# Altium footprint library Connector_RJ.PcbLib: 28 footprints (part 2 of 2)
Each footprint in its own frame and in the unit in brackets; x right, y up, seen from the top. Pads: shape width x height; smd on the part's side, far side on the other; paste and mask are expansions set on the pad; w line width, h text height; cw(c..) or ccw(c..) is an arc to the next point about the centre after c.
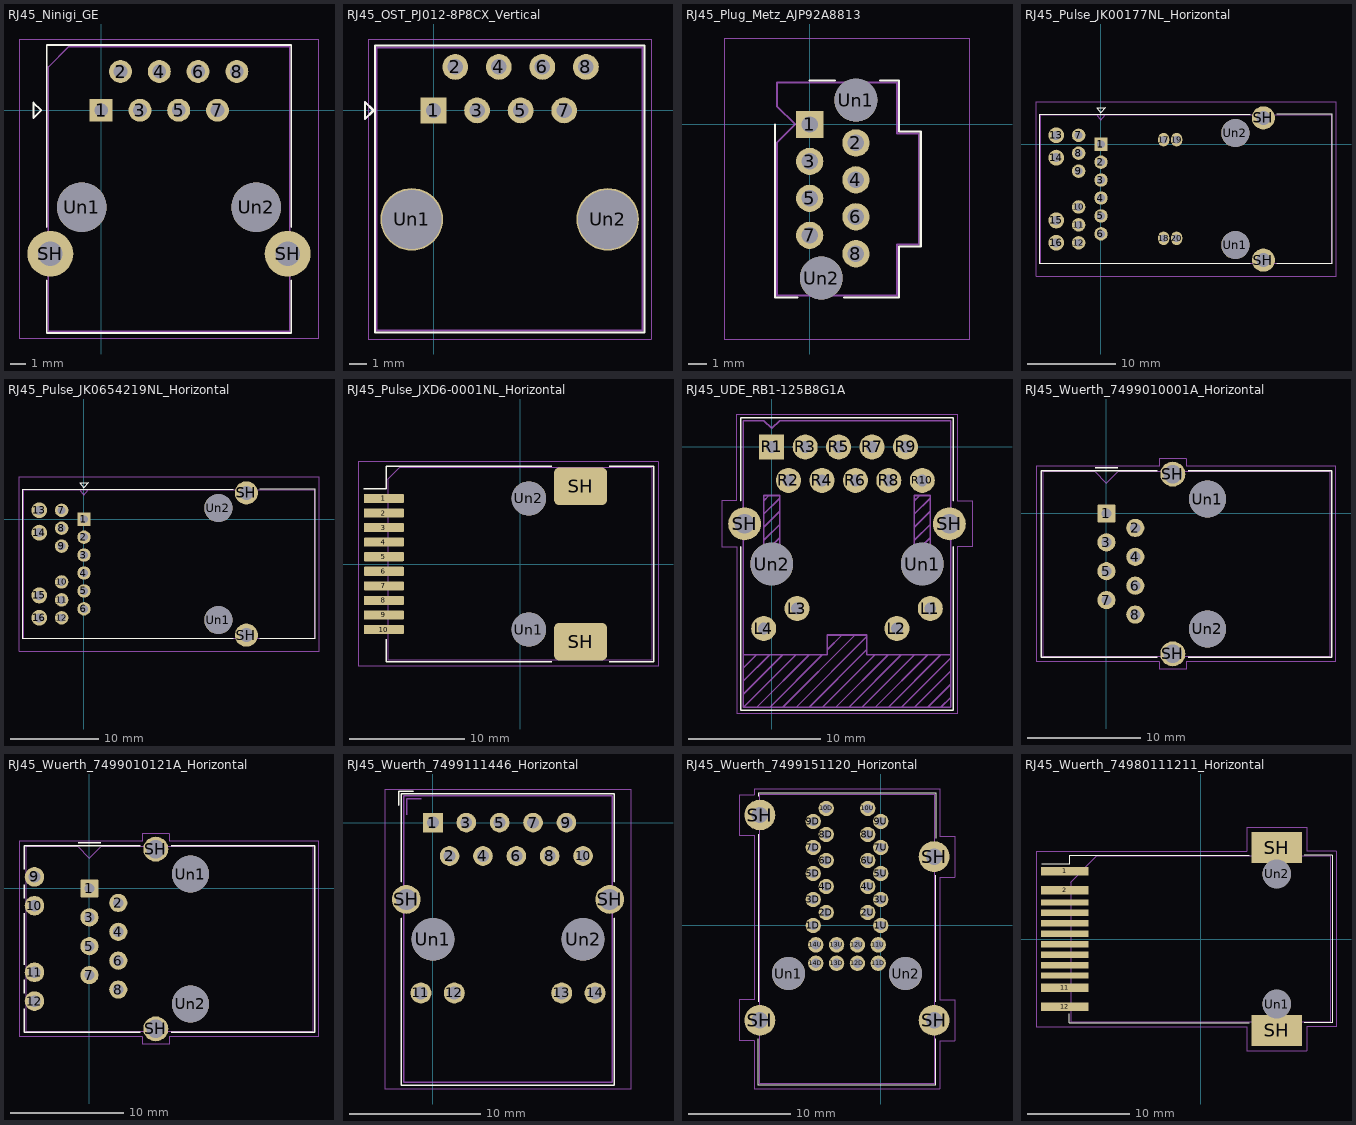
[diagram p1: the footprints below, top view; thin cyan lines are the x and y axes]

## RJ45_Ninigi_GE [mm]
pads (12):
  rect 1.5x1.5 hole 0.9: 1(0,0)
  round 1.5 hole 0.9: 2(1.27,2.54) 3(2.54,0) 4(3.81,2.54) 5(5.08,0) 6(6.35,2.54) 7(7.62,0) 8(8.89,2.54)
  round 3 hole 1.6: SH(-3.325,-9.4) SH(12.215,-9.4)
  round 3.25 hole 3.25: Un1(-1.27,-6.35) Un2(10.16,-6.35)
F.SilkS:
  lines w0.12: -3.565,-11.15 -3.565,-14.59 12.455,-14.59 12.455,-11.15 ; -3.565,-7.65 -3.565,4.28 12.455,4.28 12.455,-7.65 ; -4.441,-0.508 -3.933,0 -4.441,0.508 -4.441,-0.508
F.CrtYd:
  lines w0.05: -5.33,-14.98 -5.33,4.67 14.22,4.67 14.22,-14.98 -5.33,-14.98
F.Fab:
  lines w0.1: -3.455,-14.48 -3.455,2.84 -2.125,4.17 12.345,4.17 12.345,-14.48 -3.455,-14.48
  text "'.Designator'" at 0.398,-7.2 h1

## RJ45_OST_PJ012-8P8CX_Vertical [mm]
pads (10):
  rect 1.5x1.5 hole 0.9: 1(0,0)
  round 1.5 hole 0.9: 2(1.27,2.54) 3(2.54,0) 4(3.81,2.54) 5(5.08,0) 6(6.35,2.54) 7(7.62,0) 8(8.89,2.54)
  round 3.65 hole 3.45: Un1(-1.27,-6.35) Un2(10.16,-6.35)
F.SilkS:
  lines w0.12: 12.3,3.79 -3.42,3.79 -3.42,-12.95 12.31,-12.95 12.31,3.79 ; -4,-0.5 -3.5,0 -4,0.5 -4,-0.5
F.CrtYd:
  lines w0.05: -3.8,-13.33 12.69,-13.33 12.69,4.17 -3.8,4.17 -3.8,-13.33
F.Fab:
  lines w0.1: -3.305,-12.83 -3.305,3.67 12.195,3.67 12.195,-12.83 -3.305,-12.83
  lines w0.12: -4,-0.5 -4,0.5 -3.5,0 -4,-0.5
  text "'.Designator'" at 0.653,-7.19 h1

## RJ45_Plug_Metz_AJP92A8813 [mm]
pads (10):
  rect 1.5x1.5 hole 0.9: 1(0,0)
  round 1.5 hole 0.9: 2(2.54,-1.016) 3(0,-2.032) 4(2.54,-3.048) 5(0,-4.064) 6(2.54,-5.08) 7(0,-6.096) 8(2.54,-7.112)
  round 2.36 hole 2.36: Un1(2.54,1.334) Un2(0.635,-8.446)
F.SilkS:
  lines w0.12: -1.915,0 -1.915,-9.51 -0.69,-9.51 ; 0,2.41 1.39,2.41 ; 1.9,-9.51 4.91,-9.51 4.91,-6.71 6.11,-6.71 6.11,-0.39 4.91,-0.39 4.91,2.41 3.87,2.41
F.CrtYd:
  lines w0.05: -4.7,-11.8 -4.7,4.7 8.8,4.7 8.8,-11.8 -4.7,-11.8
F.Fab:
  lines w0.1: -1.805,-9.4 -1.805,-1 -0.805,0 -1.805,1 -1.805,2.3 4.795,2.3 4.795,-0.5 5.995,-0.5 5.995,-6.6 4.795,-6.6 4.795,-9.4 -1.805,-9.4
  text "'.Designator'" at 5.84,-7.647 h1

## RJ45_Pulse_JK00177NL_Horizontal [mm]
pads (24):
  rect 1.524x1.524 hole 0.89: 1(0,0)
  round 1.524 hole 0.89: 2(0,-2.032) 3(0,-4.064) 4(0,-6.096) 5(0,-8.128) 6(0,-10.16) 7(-2.54,1.016) 8(-2.54,-1.016) 9(-2.54,-3.048) 10(-2.54,-7.112) 11(-2.54,-9.144) 12(-2.54,-11.176)
  round 1.8 hole 1.025: 13(-5.08,1.016) 14(-5.08,-1.524) 15(-5.08,-8.636) 16(-5.08,-11.176)
  rrect100% 1.27x1.524 hole 0.89: 17(7.11,0.515) 18(7.11,-10.665) 19(8.58,0.515) 20(8.58,-10.665)
  round 2.61 hole 1.57: SH(18.415,-13.144)
  round 2.63 hole 1.57: SH(18.415,2.984)
  round 3.2 hole 3.2: Un1(15.24,-11.43) Un2(15.24,1.27)
F.SilkS:
  lines w0.12: 16.91,3.42 -6.97,3.42 -6.97,-13.57 16.92,-13.57 ; 19.91,-13.57 26.25,-13.57 26.25,3.42 19.92,3.42 ; -0.5,4.15 0,3.55 0.5,4.15 -0.5,4.15
F.CrtYd:
  lines w0.05: -7.37,-14.95 -7.37,4.8 26.65,4.8 26.65,-14.95 -7.37,-14.95
F.Fab:
  lines w0.1: -0.5,3.32 0,2.72 0.5,3.32 ; -6.87,-13.47 26.15,-13.47 26.15,3.32 -6.87,3.32 -6.87,-13.47
  text "'.Designator'" at 5.053,-5.94 h1

## RJ45_Pulse_JK0654219NL_Horizontal [mil]
pads (20):
  rect 60x60 hole 35.04: 1(0,0)
  round 60 hole 35.04: 2(0,-80) 3(0,-160) 4(0,-240) 5(0,-320) 6(0,-400) 7(-100,40) 8(-100,-40) 9(-100,-120) 10(-100,-280) 11(-100,-360) 12(-100,-440)
  round 70.87 hole 40.35: 13(-200,40) 14(-200,-60) 15(-200,-340) 16(-200,-440)
  round 102.76 hole 61.81: SH(725,-517.5)
  round 103.54 hole 61.81: SH(725,117.5)
  round 125.98 hole 125.98: Un1(600,-450) Un2(600,50)
F.SilkS:
  lines w4.72: 665.75,134.65 -274.41,134.65 -274.41,-534.25 666.14,-534.25 ; 783.86,-534.25 1033.46,-534.25 1033.46,134.65 784.25,134.65 ; -19.68,163.39 0,139.76 19.68,163.39 -19.68,163.39
F.CrtYd:
  lines w1.97: -290.16,-588.58 -290.16,188.98 1049.21,188.98 1049.21,-588.58 -290.16,-588.58
F.Fab:
  lines w3.94: -19.68,130.71 0,107.09 19.68,130.71 ; -270.47,-530.32 1029.53,-530.32 1029.53,130.71 -270.47,130.71 -270.47,-530.32
  text "'.Designator'" at 198.95,-233.87 h39.37

## RJ45_Pulse_JXD6-0001NL_Horizontal [mm]
pads (14):
  rrect25% 3.5x0.8 smd: 1(-11.875,5.715) 2(-11.875,4.445) 3(-11.875,3.175) 4(-11.875,1.905) 5(-11.875,0.635) 6(-11.875,-0.635) 7(-11.875,-1.905) 8(-11.875,-3.175) 9(-11.875,-4.445) 10(-11.875,-5.715)
  rrect25% 4.6x3.26 smd: SH(5.275,-6.77) SH(5.275,6.77)
  round 3 hole 3: Un1(0.775,-5.715) Un2(0.775,5.715)
F.SilkS:
  lines w0.12: -13.625,6.55 -11.645,6.55 -11.645,8.52 2.775,8.52 ; -11.645,-6.55 -11.645,-8.52 2.775,-8.52 ; 7.775,-8.52 11.645,-8.52 11.645,8.52 7.775,8.52
F.CrtYd:
  lines w0.05: -14.13,-8.9 12.03,-8.9 12.03,8.9 -14.13,8.9 -14.13,-8.9
F.Fab:
  lines w0.1: -11.525,-8.4 -11.525,7.4 -10.525,8.4 11.525,8.4 11.525,-8.4 -11.525,-8.4
  text "'.Designator'" at -4.047,-0.84 h1

## RJ45_UDE_RB1-125B8G1A [mm]
pads (18):
  round 1.9 hole 0.9: L1(12.04,-12.27) L2(9.5,-13.79) L3(1.93,-12.27) L4(-0.61,-13.79) R2(1.27,-2.54) R3(2.54,0) R4(3.81,-2.54) R5(5.08,0) R6(6.35,-2.54) R7(7.62,0) R8(8.89,-2.54) R9(10.16,0) R10(11.43,-2.54)
  rect 1.9x1.9 hole 0.9: R1(0,0)
  round 2.5 hole 1.5: SH(-2.06,-5.84) SH(13.49,-5.84)
  round 3.25 hole 3.25: Un1(11.43,-8.89) Un2(0,-8.89)
F.SilkS:
  lines w0.12: -2.36,-7.58 -2.36,-19.98 13.79,-19.98 13.79,-7.58 ; -2.36,-4.08 -2.36,2.2 13.79,2.2 13.79,-4.08
Dwgs.User:
  lines w0.12: -2.16,-18.78 0.84,-15.78 ; -2.16,-17.78 -0.16,-15.78 ; -2.16,-16.78 -1.16,-15.78 ; -1.16,-19.78 2.84,-15.78 ; -0.6,-8.09 0.6,-6.89 ; -0.6,-7.09 0.6,-5.89 ; -0.6,-6.09 0.6,-4.89 ; -0.6,-5.09 0.6,-3.89 ; -0.6,-4.09 -0.2,-3.69 ; -0.16,-19.78 3.84,-15.78 ; 0.6,-7.89 -0.6,-9.09 ; 0.84,-19.77 6.33,-14.28 ; 1.84,-19.78 7.22,-14.4 ; 1.84,-15.78 -2.16,-19.78 ; 2.84,-19.77 7.22,-15.39 ; 3.84,-19.78 7.84,-15.78 ; 4.21,-15.41 5.34,-14.29 ; 4.84,-19.78 8.84,-15.78 ; 5.84,-19.78 9.84,-15.78 ; 6.84,-19.78 10.84,-15.78 ; 7.84,-19.78 11.84,-15.78 ; 8.84,-19.78 12.84,-15.78 ; 9.84,-19.78 13.59,-16.03 ; 10.83,-8.09 12.03,-6.89 ; 10.83,-7.09 12.03,-5.89 ; 10.83,-6.09 12.03,-4.89 ; 10.83,-5.09 12.03,-3.89 ; 10.83,-4.09 11.23,-3.69 ; 10.84,-19.77 13.59,-17.02 ; 11.84,-19.77 13.59,-18.02 ; 12.03,-7.89 10.83,-9.09 ; 12.84,-19.77 13.59,-19.02 ; -2.16,-19.78 -2.16,-15.78 4.21,-15.78 4.21,-14.28 7.22,-14.28 7.22,-15.78 13.59,-15.78 13.59,-19.78 -2.16,-19.78 ; -0.6,-9.09 -0.6,-3.69 0.6,-3.69 0.6,-9.09 -0.6,-9.09 ; 10.83,-9.09 10.83,-3.69 12.03,-3.69 12.03,-9.09 10.83,-9.09
F.CrtYd:
  lines w0.05: -3.81,-7.59 -3.81,-4.09 -2.66,-4.09 -2.66,2.5 14.09,2.5 14.09,-4.09 15.24,-4.09 15.24,-7.59 14.09,-7.59 14.09,-20.28 -2.66,-20.28 -2.66,-7.59 -3.81,-7.59
F.Fab:
  lines w0.1: -2.16,-19.78 -2.16,2 -0.6,2 0,1.4 0.6,2 13.59,2 13.59,-19.78 -2.16,-19.78
  text "'.Designator'" at 1.953,-6.84 h1

## RJ45_Wuerth_7499010001A_Horizontal [mm]
pads (12):
  rrect16% 1.6x1.6 hole 0.9: 1(0,0)
  round 1.6 hole 0.9: 2(2.54,-1.27) 3(0,-2.54) 4(2.54,-3.81) 5(0,-5.08) 6(2.54,-6.35) 7(0,-7.62) 8(2.54,-8.89)
  round 2.2 hole 1.6: SH(5.84,-12.345) SH(5.84,3.455)
  round 3.25 hole 3.25: Un1(8.89,1.27) Un2(8.89,-10.16)
F.SilkS:
  lines w0.12: -1,4 1,4 ; 4.47,-12.655 -5.72,-12.655 -5.72,3.765 4.47,3.765 ; 7.21,-12.655 19.8,-12.655 19.8,3.765 7.21,3.765
F.CrtYd:
  lines w0.05: -6.19,-13.05 -6.19,4.16 4.66,4.16 4.66,4.83 7.02,4.83 7.02,4.16 20.19,4.16 20.19,-13.05 7.02,-13.05 7.02,-13.72 4.66,-13.72 4.66,-13.05 -6.19,-13.05
F.Fab:
  lines w0.1: -1,3.655 -5.61,3.655 -5.61,-12.545 19.69,-12.545 19.69,3.655 1,3.655 0,2.655 ; -1,3.66 0,2.66
  text "'.Designator'" at 3.453,-4.84 h1

## RJ45_Wuerth_7499010121A_Horizontal [mm]
pads (16):
  rrect16% 1.6x1.6 hole 0.9: 1(0,0)
  round 1.6 hole 0.9: 2(2.54,-1.27) 3(0,-2.54) 4(2.54,-3.81) 5(0,-5.08) 6(2.54,-6.35) 7(0,-7.62) 8(2.54,-8.89)
  round 1.72 hole 1.02: 9(-4.83,1.02) 10(-4.83,-1.52) 11(-4.83,-7.37) 12(-4.83,-9.91)
  round 2.2 hole 1.6: SH(5.84,-12.345) SH(5.84,3.455)
  round 3.25 hole 3.25: Un1(8.89,1.27) Un2(8.89,-10.16)
F.SilkS:
  lines w0.12: -5.72,-10.59 -5.72,-12.655 4.47,-12.655 ; -5.72,-9.23 -5.72,-8.05 ; -5.72,-6.69 -5.72,-2.2 ; -5.72,-0.84 -5.72,0.34 ; -5.72,1.7 -5.72,3.765 4.47,3.765 ; -1,4 1,4 ; 7.21,-12.655 19.8,-12.655 19.8,3.765 7.21,3.765
F.CrtYd:
  lines w0.05: -6.19,-13.05 4.66,-13.05 4.66,-13.72 7.02,-13.72 7.02,-13.05 20.19,-13.05 20.19,4.16 7.02,4.16 7.02,4.83 4.66,4.83 4.66,4.16 -6.19,4.16 -6.19,-13.05
F.Fab:
  lines w0.1: -1,3.655 -5.61,3.655 -5.61,-12.545 19.69,-12.545 19.69,3.655 1,3.655 0,2.655 ; -1,3.66 0,2.66
  text "'.Designator'" at 3.453,-4.84 h1

## RJ45_Wuerth_7499111446_Horizontal [mm]
pads (18):
  rect 1.5x1.5 hole 0.9: 1(0,0)
  round 1.5 hole 0.9: 2(1.27,-2.54) 3(2.54,0) 4(3.81,-2.54) 5(5.08,0) 6(6.35,-2.54) 7(7.62,0) 8(8.89,-2.54) 9(10.16,0) 10(11.43,-2.54)
  round 1.6 hole 1.02: 11(-0.915,-12.97) 12(1.625,-12.97) 13(9.805,-12.97) 14(12.345,-12.97)
  round 2.2 hole 1.6: SH(-2.03,-5.84) SH(13.46,-5.84)
  round 3.25 hole 3.25: Un1(0,-8.89) Un2(11.43,-8.89)
F.SilkS:
  lines w0.12: -2.6,1.31 -2.6,2.4 -1.485,2.4 ; -2.4,-7.29 -2.4,-20 13.8,-20 13.8,-7.29 ; -2.4,-4.49 -2.4,2.2 13.8,2.2 13.8,-4.49
F.CrtYd:
  lines w0.05: -3.63,-20.28 15.06,-20.28 15.06,2.56 -3.63,2.56 -3.63,-20.28
F.Fab:
  lines w0.1: -1.985,0.61 -1.985,1.81 -0.885,1.81 ; -2.225,-19.78 13.655,-19.78 13.655,2.06 -2.225,2.06 -2.225,-19.78
  text "'.Designator'" at 9.762,-8.05 h1

## RJ45_Wuerth_7499151120_Horizontal [mm]
pads (34):
  round 1.5 hole 0.9: 1D(-6.6,0) 1U(0,0) 2D(-5.33,1.27) 2U(-1.27,1.27) 3D(-6.6,2.54) 3U(0,2.54) 4D(-5.33,3.81) 4U(-1.27,3.81) 5D(-6.6,5.08) 5U(0,5.08) 6D(-5.33,6.35) 6U(-1.27,6.35) 7D(-6.6,7.62) 7U(0,7.62) 8D(-5.33,8.89) 8U(-1.27,8.89) 9D(-6.6,10.16) 9U(0,10.16) 10D(-5.33,11.43) 10U(-1.27,11.43) 11D(-0.255,-3.69) 11U(-0.255,-1.89) 12D(-2.285,-3.69) 12U(-2.285,-1.89) 13D(-4.315,-3.69) 13U(-4.315,-1.89) 14D(-6.345,-3.69) 14U(-6.345,-1.89)
  round 3 hole 1.6: SH(-11.805,-9.27) SH(-11.805,10.79) SH(5.205,-9.27) SH(5.205,6.73)
  round 3.25 hole 3.25: Un1(-9.015,-4.7) Un2(2.415,-4.7)
F.SilkS:
  lines w0.12: -11.965,-11.07 -11.965,-15.59 5.365,-15.59 5.365,-11.07 ; -11.965,-7.47 -11.965,8.93 ; -11.965,12.63 -11.965,12.95 5.365,12.95 5.365,8.53 ; 5.365,-7.47 5.365,4.93
Dwgs.User:
  lines w0.1: -11.845,-15.47 5.245,-15.47
F.CrtYd:
  lines w0.05: -13.81,-11.27 -12.35,-11.27 -12.35,-15.97 5.75,-15.97 5.75,-11.27 7.21,-11.27 7.21,-7.27 5.75,-7.27 5.75,4.73 7.21,4.73 7.21,8.73 5.75,8.73 5.75,13.33 -12.35,13.33 -12.35,12.79 -13.81,12.79 -13.81,8.79 -12.35,8.79 -12.35,-7.27 -13.81,-7.27 -13.81,-11.27
F.Fab:
  lines w0.1: -11.845,-15.47 -11.845,12.83 5.245,12.83 5.245,-15.47 -11.845,-15.47
  text "'.Designator'" at -7.347,-1.31 h1

## RJ45_Wuerth_74980111211_Horizontal [mm]
pads (16):
  rect 4.6x0.81 smd: 1(-13.27,6.61) 2(-13.27,4.77) 11(-13.27,-4.77) 12(-13.27,-6.61)
  rect 4.6x0.61 smd: 3(-13.27,3.57) 4(-13.27,2.55) 5(-13.27,1.53) 6(-13.27,0.51) 7(-13.27,-0.51) 8(-13.27,-1.53) 9(-13.27,-2.55) 10(-13.27,-3.57)
  rect 4.9x3 smd: SH(7.42,-8.92) SH(7.42,8.92)
  round 2.8 hole 2.8: Un1(7.42,-6.35) Un2(7.42,6.35)
F.SilkS:
  lines w0.12: -15.5,7.3 -12.82,7.3 -12.82,8.17 4.72,8.17 ; -12.82,-7.3 -12.82,-8.17 4.72,-8.17 ; 10.12,-8.17 12.82,-8.17 12.82,8.17 10.12,8.17
F.CrtYd:
  lines w0.05: -16.07,-8.55 -16.07,8.55 4.47,8.55 4.47,10.92 10.37,10.92 10.37,8.55 13.2,8.55 13.2,-8.55 10.37,-8.55 10.37,-10.92 4.47,-10.92 4.47,-8.55 -16.07,-8.55
F.Fab:
  lines w0.1: -12.7,-8.05 12.7,-8.05 12.7,8.05 -10.2,8.05 -12.7,5.55 -12.7,-8.05
  text "'.Designator'" at -4.047,-0.84 h1